# Altium schematic symbol library Schlib_Signle_Board_Computer.SchLib: 1 symbol
Pins are listed as number, name and electrical type; pins without a type are passive.

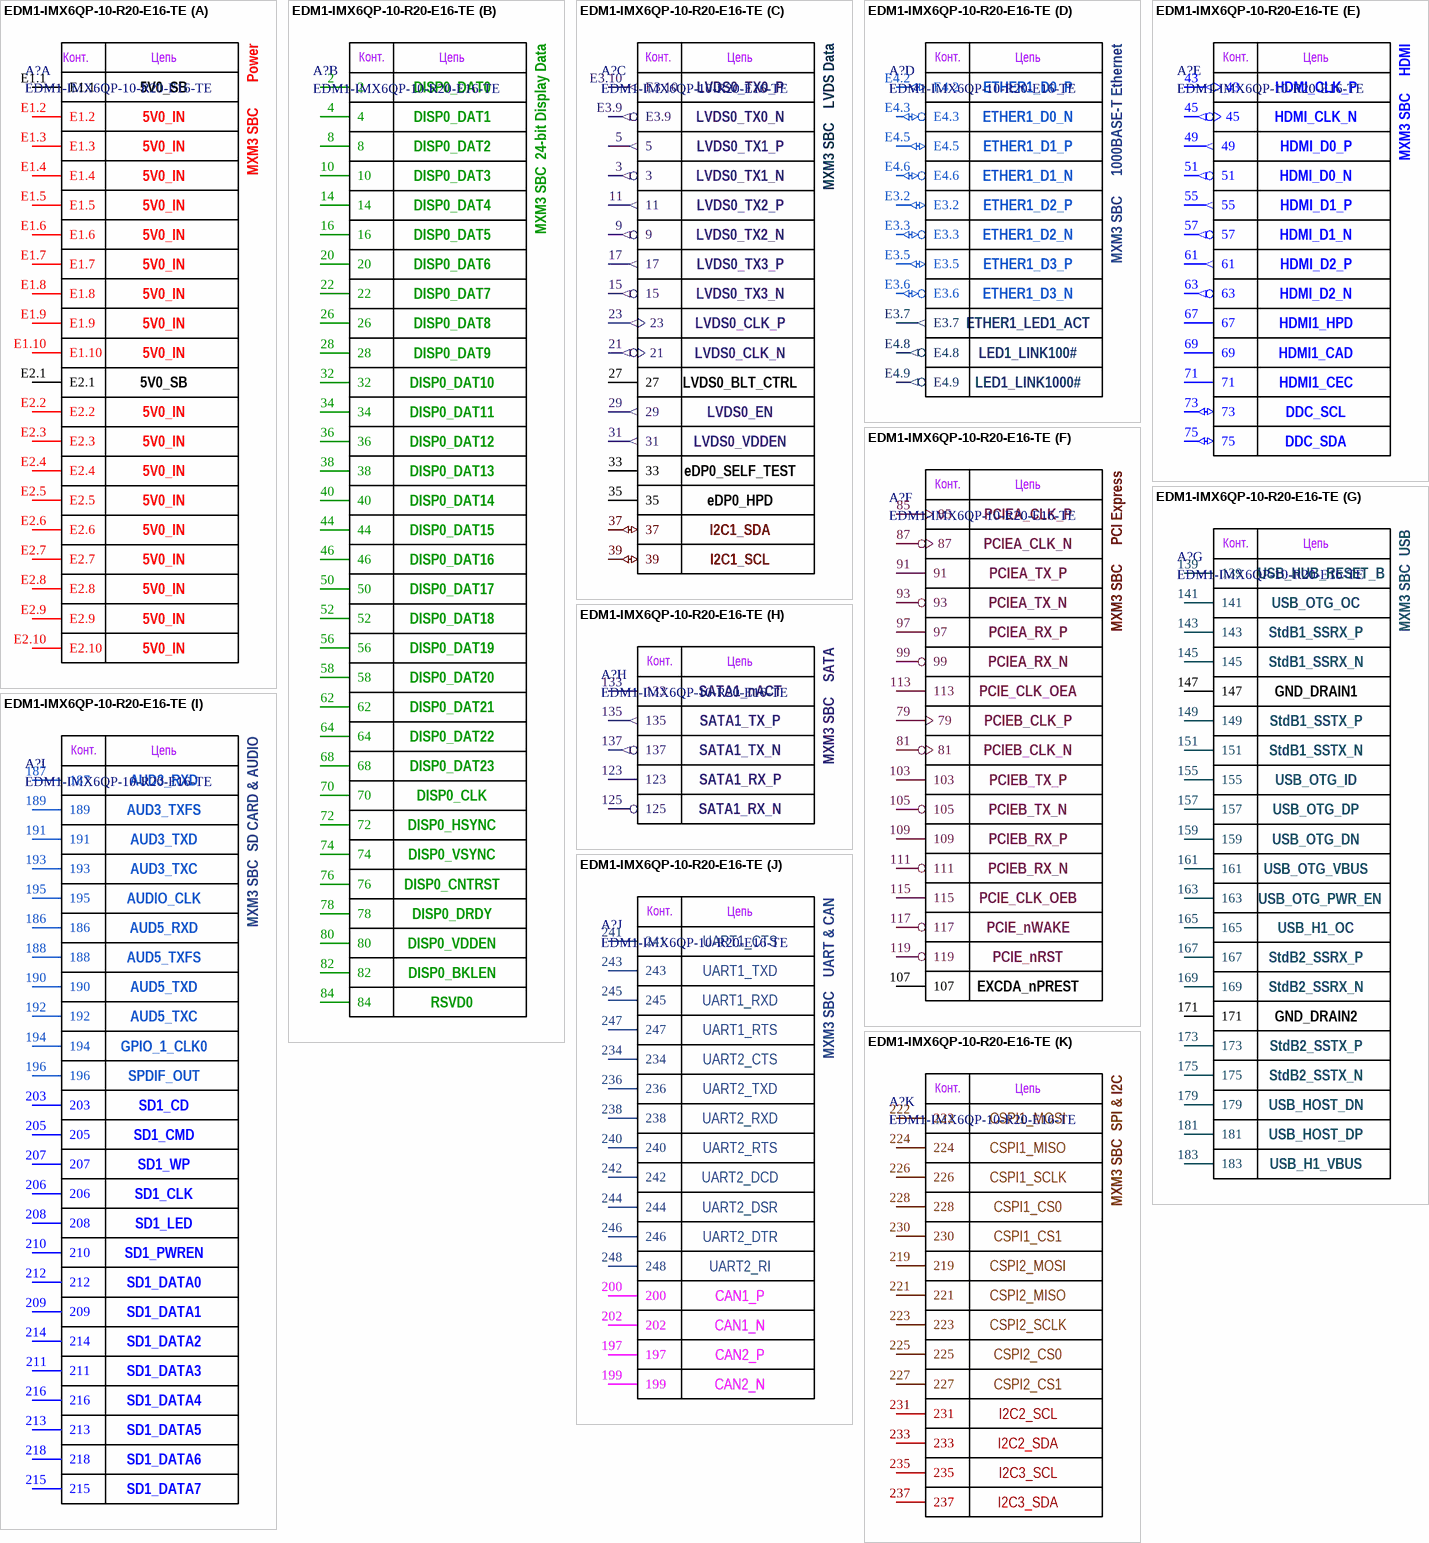
[diagram p0: symbol EDM1-IMX6QP-10-R20-E16-TE]

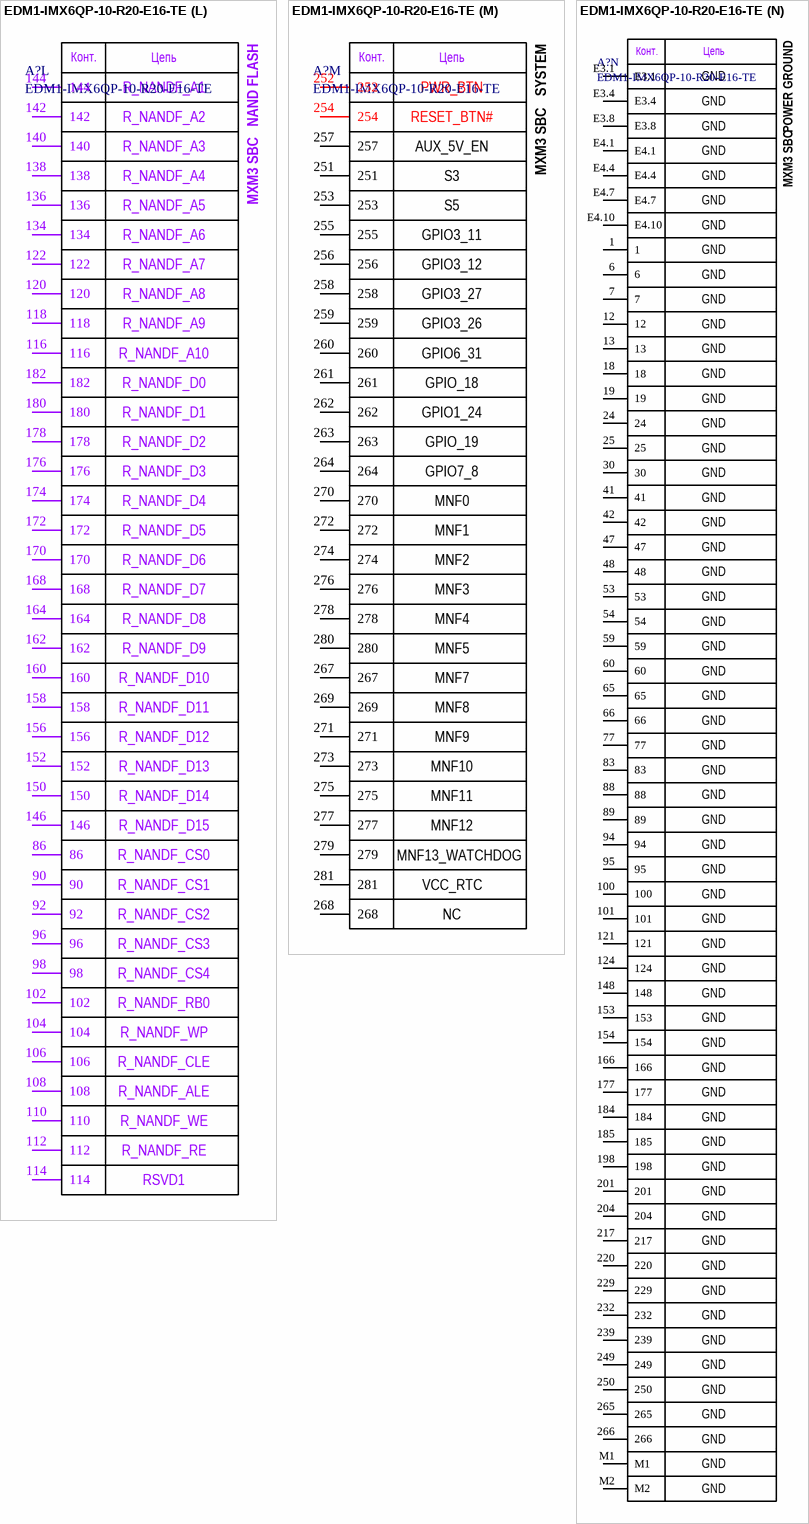
[diagram p1: symbol EDM1-IMX6QP-10-R20-E16-TE]

## EDM1-IMX6QP-10-R20-E16-TE
designator A?
Part Number: EDM1-IMX6QP-10-R20-E16-TE
footprint EDM1-IMX6QP-10-R20-E16-TE (Signle Board Computer EDM1-IMX6QP-10-R20-E16-TE)
footprint EDM1-IMX6QP-10-R20-E16-TE(Connector only) (Signle Board Computer EDM1-IMX6QP-10-R20-E16-TE)
part A pins: E1.1 (power), E1.2 (power), E1.3 (power), E1.4 (power), E1.5 (power), E1.6 (power), E1.7 (power), E1.8 (power), E1.9 (power), E1.10 (power), E2.1 (power), E2.2 (power), E2.3 (power), E2.4 (power), E2.5 (power), E2.6 (power), E2.7 (power), E2.8 (power), E2.9 (power), E2.10 (power)
part B pins: 2, 4, 8, 10, 14, 16, 20, 22, 26, 28, 32, 34, 36, 38, 40, 44, 46, 50, 52, 56, 58, 62, 64, 68, 70, 72, 74, 76, 78, 80, 82, 84
part C pins: 3 (out), 5 (out), 9 (out), 11 (out), 15 (out), 17 (out), 21 (out), 23 (out), 27, 29 (out), 31 (out), 33, 35, 37 (io), 39 (io), E3.9 (out), E3.10 (out)
part D pins: E3.2 (io), E3.3 (io), E3.5 (io), E3.6 (io), E3.7 (out), E4.2 (io), E4.3 (io), E4.5 (io), E4.6 (io), E4.8 (out), E4.9 (out)
part E pins: 43 (out), 45 (out), 49 (out), 51 (out), 55 (out), 57 (out), 61 (out), 63 (out), 67, 69, 71, 73 (io), 75 (io)
part F pins: 79 (power), 81 (power), 85 (power), 87 (power), 91 (power), 93 (power), 97 (power), 99 (power), 103 (power), 105 (power), 107 (power), 109 (power), 111 (power), 113 (power), 115 (power), 117 (power), 119 (power)
part G pins: 139, 141, 143, 145, 147 (power), 149, 151, 155, 157, 159, 161, 163, 165, 167, 169, 171 (power), 173, 175, 179, 181, 183
part H pins: 123, 125, 133, 135 (out), 137 (out)
part I pins: 186, 187, 188, 189, 190, 191, 192, 193, 194, 195, 196, 203, 205, 206, 207, 208, 209, 210, 211, 212, 213, 214, 215, 216, 218
part J pins: 197, 199, 200, 202, 234, 236, 238, 240, 241, 242, 243, 244, 245, 246, 247, 248
part K pins: 219, 221, 222, 223, 224, 225, 226, 227, 228, 230, 231, 233, 235, 237
part L pins: 86, 90, 92, 96, 98, 102, 104, 106, 108, 110, 112, 114, 116, 118, 120, 122, 134, 136, 138, 140, 142, 144, 146, 150, 152, 156, 158, 160, 162, 164, 168, 170, 172, 174, 176, 178, 180, 182
part M pins: 251, 252, 253, 254, 255, 256, 257, 258, 259, 260, 261, 262, 263, 264, 267, 268, 269, 270, 271, 272, 273, 274, 275, 276, 277, 278, 279, 280, 281 (power)
part N pins: 1 (power), 6 (power), 7 (power), 12 (power), 13 (power), 18 (power), 19 (power), 24 (power), 25 (power), 30 (power), 41 (power), 42 (power), 47 (power), 48 (power), 53 (power), 54 (power), 59 (power), 60 (power), 65 (power), 66 (power), 77 (power), 83 (power), 88 (power), 89 (power), 94 (power), 95 (power), 100 (power), 101 (power), 121 (power), 124 (power), 148 (power), 153 (power), 154 (power), 166 (power), 177 (power), 184 (power), 185 (power), 198 (power), 201 (power), 204 (power), 217 (power), 220 (power), 229 (power), 232 (power), 239 (power), 249 (power), 250 (power), 265 (power), 266 (power), E3.1 (power), E3.4 (power), E3.8 (power), E4.1 (power), E4.4 (power), E4.7 (power), E4.10 (power), M1 (power), M2 (power)
part A text: Power; Конт.; Цепь; 5V0_SB; 5V0_IN; MXM3 SBC
part B text: 24-bit Display Data; Конт.; Цепь; DISP0_DAT0; DISP0_DAT1; DISP0_DAT2; DISP0_DAT3; DISP0_DAT4; DISP0_DAT5; MXM3 SBC; DISP0_DAT6; DISP0_DAT7; DISP0_DAT8; DISP0_DAT9; DISP0_DAT10; DISP0_DAT11; DISP0_DAT12; DISP0_DAT13; DISP0_DAT14; DISP0_DAT15; DISP0_DAT16; DISP0_DAT17; DISP0_DAT18; DISP0_DAT19; DISP0_DAT20; DISP0_DAT21; DISP0_DAT22; DISP0_DAT23; DISP0_CLK; DISP0_HSYNC; DISP0_VSYNC; DISP0_CNTRST; DISP0_DRDY; DISP0_VDDEN; DISP0_BKLEN; RSVD0
part C text: LVDS Data; Конт.; Цепь; LVDS0_TX0_P; LVDS0_TX0_N; LVDS0_TX1_P; LVDS0_TX1_N; MXM3 SBC; LVDS0_TX2_P; LVDS0_TX2_N; LVDS0_TX3_P; LVDS0_TX3_N; LVDS0_CLK_P; LVDS0_CLK_N; LVDS0_BLT_CTRL; LVDS0_EN; LVDS0_VDDEN; eDP0_SELF_TEST; eDP0_HPD; I2C1_SDA; I2C1_SCL
part D text: 1000BASE-T Ethernet; Конт.; Цепь; ETHER1_D0_P; ETHER1_D0_N; ETHER1_D1_P; ETHER1_D1_N; ETHER1_D2_P; ETHER1_D2_N; ETHER1_D3_P; MXM3 SBC; ETHER1_D3_N; ETHER1_LED1_ACT; LED1_LINK100#; LED1_LINK1000#
part E text: HDMI; Конт.; Цепь; HDMI_CLK_P; HDMI_CLK_N; HDMI_D0_P; MXM3 SBC; HDMI_D0_N; HDMI_D1_P; HDMI_D1_N; HDMI_D2_P; HDMI_D2_N; HDMI1_HPD; HDMI1_CAD; HDMI1_CEC; DDC_SCL; DDC_SDA
part F text: PCI Express; Конт.; Цепь; PCIEA_CLK_P; PCIEA_CLK_N; PCIEA_TX_P; PCIEA_TX_N; PCIEA_RX_P; MXM3 SBC; PCIEA_RX_N; PCIE_CLK_OEA; PCIEB_CLK_P; PCIEB_CLK_N; PCIEB_TX_P; PCIEB_TX_N; PCIEB_RX_P; PCIEB_RX_N; PCIE_CLK_OEB; PCIE_nWAKE; PCIE_nRST; EXCDA_nPREST
part G text: USB; Конт.; Цепь; USB_HUB_RESET_B; USB_OTG_OC; StdB1_SSRX_P; MXM3 SBC; StdB1_SSRX_N; GND_DRAIN1; StdB1_SSTX_P; StdB1_SSTX_N; USB_OTG_ID; USB_OTG_DP; USB_OTG_DN; USB_OTG_VBUS; USB_OTG_PWR_EN; USB_H1_OC; StdB2_SSRX_P; StdB2_SSRX_N; GND_DRAIN2; StdB2_SSTX_P; StdB2_SSTX_N; USB_HOST_DN; USB_HOST_DP; USB_H1_VBUS
part H text: SATA; Конт.; Цепь; SATA1_nACT; SATA1_TX_P; SATA1_TX_N; MXM3 SBC; SATA1_RX_P; SATA1_RX_N
part I text: SD CARD & AUDIO; Конт.; Цепь; AUD3_RXD; AUD3_TXFS; AUD3_TXD; AUD3_TXC; AUDIO_CLK; AUD5_RXD; MXM3 SBC; AUD5_TXFS; AUD5_TXD; AUD5_TXC; GPIO_1_CLK0; SPDIF_OUT; SD1_CD; SD1_CMD; SD1_WP; SD1_CLK; SD1_LED; SD1_PWREN; SD1_DATA0; SD1_DATA1; SD1_DATA2; SD1_DATA3; SD1_DATA4; SD1_DATA5; SD1_DATA6; SD1_DATA7
part J text: UART & CAN; Конт.; Цепь; UART1_CTS; UART1_TXD; UART1_RXD; UART1_RTS; UART2_CTS; MXM3 SBC; UART2_TXD; UART2_RXD; UART2_RTS; UART2_DCD; UART2_DSR; UART2_DTR; UART2_RI; CAN1_P; CAN1_N; CAN2_P; CAN2_N
part K text: SPI & I2C; Конт.; Цепь; CSPI1_MOSI; CSPI1_MISO; CSPI1_SCLK; CSPI1_CS0; MXM3 SBC; CSPI1_CS1; CSPI2_MOSI; CSPI2_MISO; CSPI2_SCLK; CSPI2_CS0; CSPI2_CS1; I2C2_SCL; I2C2_SDA; I2C3_SCL; I2C3_SDA
part L text: NAND FLASH; Конт.; Цепь; R_NANDF_A1; R_NANDF_A2; R_NANDF_A3; R_NANDF_A4; R_NANDF_A5; MXM3 SBC; R_NANDF_A6; R_NANDF_A7; R_NANDF_A8; R_NANDF_A9; R_NANDF_A10; R_NANDF_D0; R_NANDF_D1; R_NANDF_D2; R_NANDF_D3; R_NANDF_D4; R_NANDF_D5; R_NANDF_D6; R_NANDF_D7; R_NANDF_D8; R_NANDF_D9; R_NANDF_D10; R_NANDF_D11; R_NANDF_D12; R_NANDF_D13; R_NANDF_D14; R_NANDF_D15; R_NANDF_CS0; R_NANDF_CS1; R_NANDF_CS2; R_NANDF_CS3; R_NANDF_CS4; R_NANDF_RB0; R_NANDF_WP; R_NANDF_CLE; R_NANDF_ALE; R_NANDF_WE; R_NANDF_RE; RSVD1
part M text: SYSTEM; Конт.; Цепь; PWR_BTN; RESET_BTN#; AUX_5V_EN; S3; MXM3 SBC; S5; GPIO3_11; GPIO3_12; GPIO3_27; GPIO3_26; GPIO6_31; GPIO_18; GPIO1_24; GPIO_19; GPIO7_8; MNF0; MNF1; MNF2; MNF3; MNF4; MNF5; MNF7; MNF8; MNF9; MNF10; MNF11; MNF12; MNF13_WATCHDOG; VCC_RTC; NC
part N text: POWER GROUND; Конт.; Цепь; GND; MXM3 SBC